# Altium footprint library tPad_Yeongmi.PcbLib: 25 footprints (part 2 of 2)
Each footprint in its own frame and in the unit in brackets; x right, y up, seen from the top. Pads: shape width x height; smd on the part's side, far side on the other; paste and mask are expansions set on the pad; w line width, h text height; cw(c..) or ccw(c..) is an arc to the next point about the centre after c.
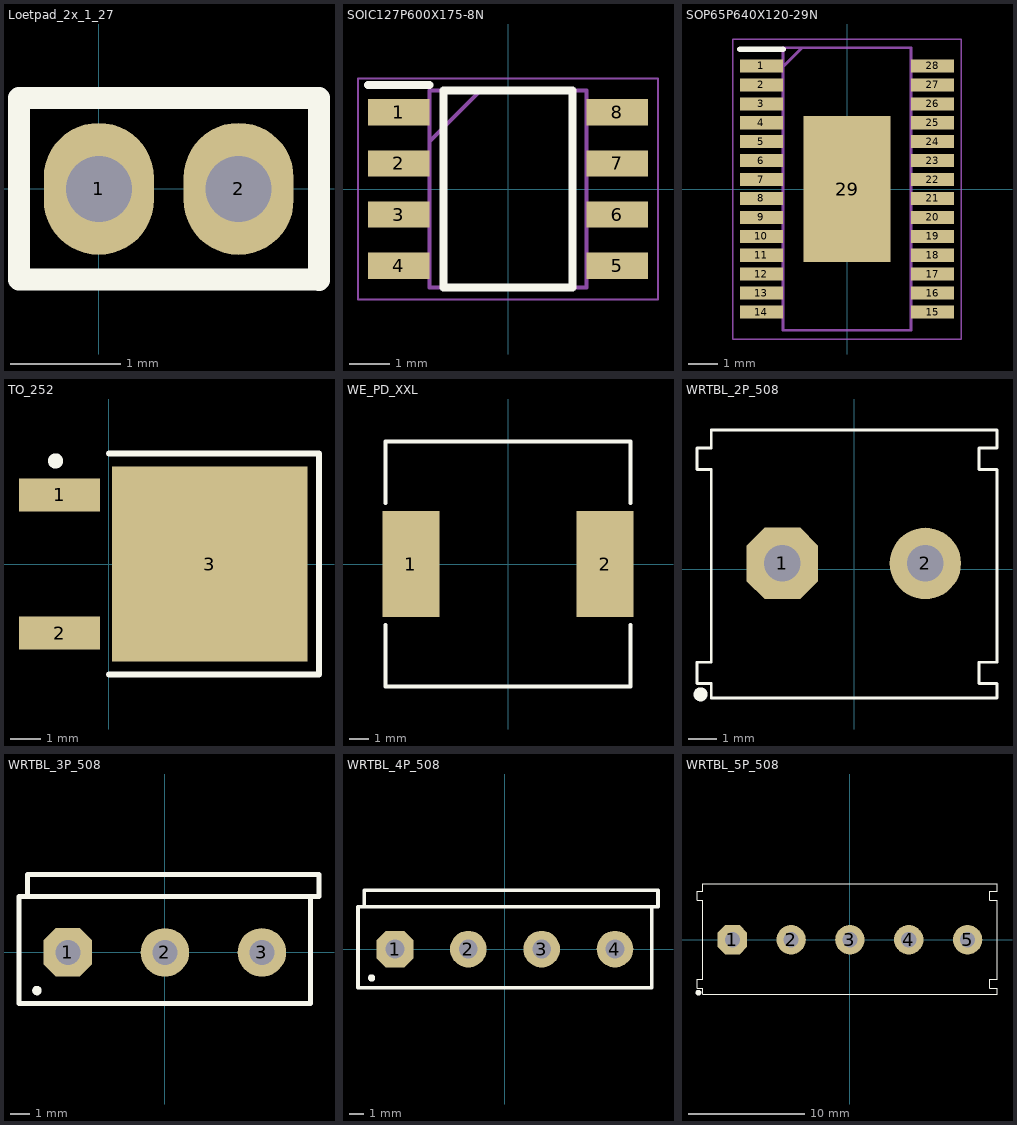
[diagram p1: the footprints below, top view; thin cyan lines are the x and y axes]

## Loetpad_2x_1_27 [mm]
pads (2):
  oval 1x1.2 hole 0.6: 1(0,0) 2(1.27,0)
Top Overlay:
  lines w0.2: 1.99,-0.825 -0.725,-0.825 -0.725,0.825 2,0.825 2,0.363 2,-0.828

## SOIC127P600X175-8N [mm]
pads (8):
  rect 1.525x0.65 smd: 1(-2.712,1.905) 2(-2.712,0.635) 3(-2.712,-0.635) 4(-2.712,-1.905) 5(2.712,-1.905) 6(2.712,-0.635) 7(2.712,0.635) 8(2.712,1.905)
Top Overlay:
  lines w0.2: -3.475,2.58 -1.95,2.58 ; -1.6,-2.45 -1.6,2.45 1.6,2.45 1.6,-2.45 -1.6,-2.45
Mechanical 13:
  lines w0.1: -1.95,1.18 -0.68,2.45 ; -1.95,-2.45 -1.95,2.45 1.95,2.45 1.95,-2.45 -1.95,-2.45
Mechanical 15:
  lines w0.05: -3.725,-2.75 -3.725,2.75 3.725,2.75 3.725,-2.75 -3.725,-2.75
3D body "NE555DR.stp": height 1.75, standoff 0, extent -3,-2.45 3,2.45

## SOP65P640X120-29N [mm]
pads (29):
  rect 1.475x0.45 smd: 1(-2.938,4.225) 2(-2.938,3.575) 3(-2.938,2.925) 4(-2.938,2.275) 5(-2.938,1.625) 6(-2.938,0.975) 7(-2.938,0.325) 8(-2.938,-0.325) 9(-2.938,-0.975) 10(-2.938,-1.625) 11(-2.938,-2.275) 12(-2.938,-2.925) 13(-2.938,-3.575) 14(-2.938,-4.225) 15(2.938,-4.225) 16(2.938,-3.575) 17(2.938,-2.925) 18(2.938,-2.275) 19(2.938,-1.625) 20(2.938,-0.975) 21(2.938,-0.325) 22(2.938,0.325) 23(2.938,0.975) 24(2.938,1.625) 25(2.938,2.275) 26(2.938,2.925) 27(2.938,3.575) 28(2.938,4.225)
  rect 3x5 smd: 29(0,0)
Top Overlay:
  lines w0.2: -3.675,4.8 -2.2,4.8
Mechanical 13:
  lines w0.1: -2.2,4.2 -1.55,4.85 ; -2.2,-4.85 -2.2,4.85 2.2,4.85 2.2,-4.85 -2.2,-4.85
Mechanical 15:
  lines w0.05: -3.925,-5.15 -3.925,5.15 3.925,5.15 3.925,-5.15 -3.925,-5.15
3D body "A3941KLPTR.stp": height 1.2, standoff 0, extent -3.2,-4.85 3.2,4.85

## TO_252 [mm]
pads (3):
  rect 2.7x1.1 smd: 1(-1.643,2.3) 2(-1.643,-2.3)
  rect 6.5x6.5 smd: 3(3.346,0)
Top Overlay:
  circle w0.25: c-1.776,3.429 r0.125
  lines w0.2: 0,3.683 6.985,3.683 6.985,-3.683 0.003,-3.683
3D body: height 2.3, standoff 0, extent 0.001,-3.428 6.73,3.428

## WE_PD_XXL [mm]
pads (2):
  rect 2.9x5.4 smd: 1(-4.95,0) 2(4.95,0)
Top Overlay:
  lines w0.2: -6.25,-3.1 -6.25,-6.25 6.25,-6.25 6.25,-3.1 ; -6.25,3.1 -6.25,6.25 6.25,6.25 6.25,3.1
3D body "7447709001.stp": height 10.36, standoff -0.01, extent -6,-6 6,6

## WRTBL_2P_508 [mm]
pads (2):
  oct 2.54x2.54 hole 1.3: 1(-2.549,0.212)
  round 2.54 hole 1.3: 2(2.531,0.212)
Top Overlay:
  circle w0.25: c-5.461,-4.445 r0.125
  lines w0.1: -5.588,-4.064 -5.08,-4.064 -5.08,-4.572 5.08,-4.572 5.08,-4.064 4.445,-4.064 4.445,-3.302 5.08,-3.302 5.08,3.556 4.445,3.556 4.445,4.318 5.08,4.318 5.08,4.953 -5.08,4.953 -5.08,4.318 -5.588,4.318 -5.588,3.556 -5.08,3.556 -5.08,-3.302 -5.588,-3.302 -5.588,-4.064
3D body "1888687.stp": height 15, standoff -3.5, extent -5.619,-4.547 5.111,4.953

## WRTBL_3P_508 [mm]
pads (3):
  oct 2.54x2.54 hole 1.3: 1(-5.08,0)
  round 2.54 hole 1.3: 2(0,0) 3(5.08,0)
Top Overlay:
  circle w0.25: c-6.705,-2 r0.125
  lines w0.254: -7.645,-2.68 -7.645,2.934 8.071,2.934 8.071,4.077 -7.153,4.077 ; -7.581,-2.68 7.629,-2.68 7.629,2.887 ; -7.204,2.934 -7.204,4.081
3D body: height 13.97, standoff 13.21, extent -6.072,-1.006 -4.08,0.99
3D body: height 13.97, standoff 13.21, extent -0.992,-1.006 1,0.99
3D body: height 12.95, standoff 0, extent -7.57,-2.599 7.62,2.692
3D body: height 13.97, standoff 13.21, extent 4.088,-1.006 6.08,0.99
3D body: height 12, standoff 0, extent -7.229,2.913 8.001,4.08

## WRTBL_4P_508 [mm]
pads (4):
  oct 2.54x2.54 hole 1.3: 1(-7.62,0)
  round 2.54 hole 1.3: 2(-2.54,0) 3(2.54,0) 4(7.62,0)
Top Overlay:
  circle w0.25: c-9.245,-2 r0.125
  lines w0.254: -10.185,-2.68 -10.185,2.934 10.601,2.934 10.601,4.077 -9.693,4.077 ; -10.121,-2.68 10.16,-2.68 10.16,2.887 ; -9.744,2.934 -9.744,4.081
3D body: height 12.95, standoff 0, extent 0.263,-2.625 9.915,2.666
3D body: height 13.97, standoff 13.21, extent 6.628,-1.006 8.62,0.99
3D body: height 12, standoff 0, extent 0.644,2.888 10.296,4.055
3D body: height 13.97, standoff 13.21, extent 1.548,-1.006 3.54,0.99
3D body: height 12.95, standoff 0, extent -9.897,-2.625 -0.245,2.666
3D body: height 13.97, standoff 13.21, extent -3.532,-1.006 -1.54,0.99
3D body: height 12, standoff 0, extent -9.516,2.888 0.136,4.055
3D body: height 13.97, standoff 13.21, extent -8.612,-1.006 -6.62,0.99

## WRTBL_5P_508 [mm]
pads (5):
  oct 2.54x2.54 hole 1.3: 1(-10.16,0)
  round 2.54 hole 1.3: 2(-5.08,0) 3(0,0) 4(5.08,0) 5(10.16,0)
Top Overlay:
  circle w0.25: c-13.081,-4.572 r0.125
  lines w0.1: -13.208,-4.191 -13.208,-3.429 -12.7,-3.429 -12.7,3.429 -13.208,3.429 -13.208,4.191 -12.7,4.191 -12.7,4.826 12.7,4.826 12.7,4.191 12.065,4.191 12.065,3.429 12.7,3.429 12.7,-3.429 12.065,-3.429 12.065,-4.191 12.7,-4.191 12.7,-4.699 -12.7,-4.699 -12.7,-4.191 -13.208,-4.191
3D body "1888690.stp": height 15.04, standoff -3.46, extent -3.079,-4.699 12.731,4.801
3D body "1888687.stp": height 15.05, standoff -3.45, extent -13.239,-4.699 -2.509,4.801